# Altium schematic symbol library SKALE_LIB.SCHLIB: 65 symbols (part 2 of 2)
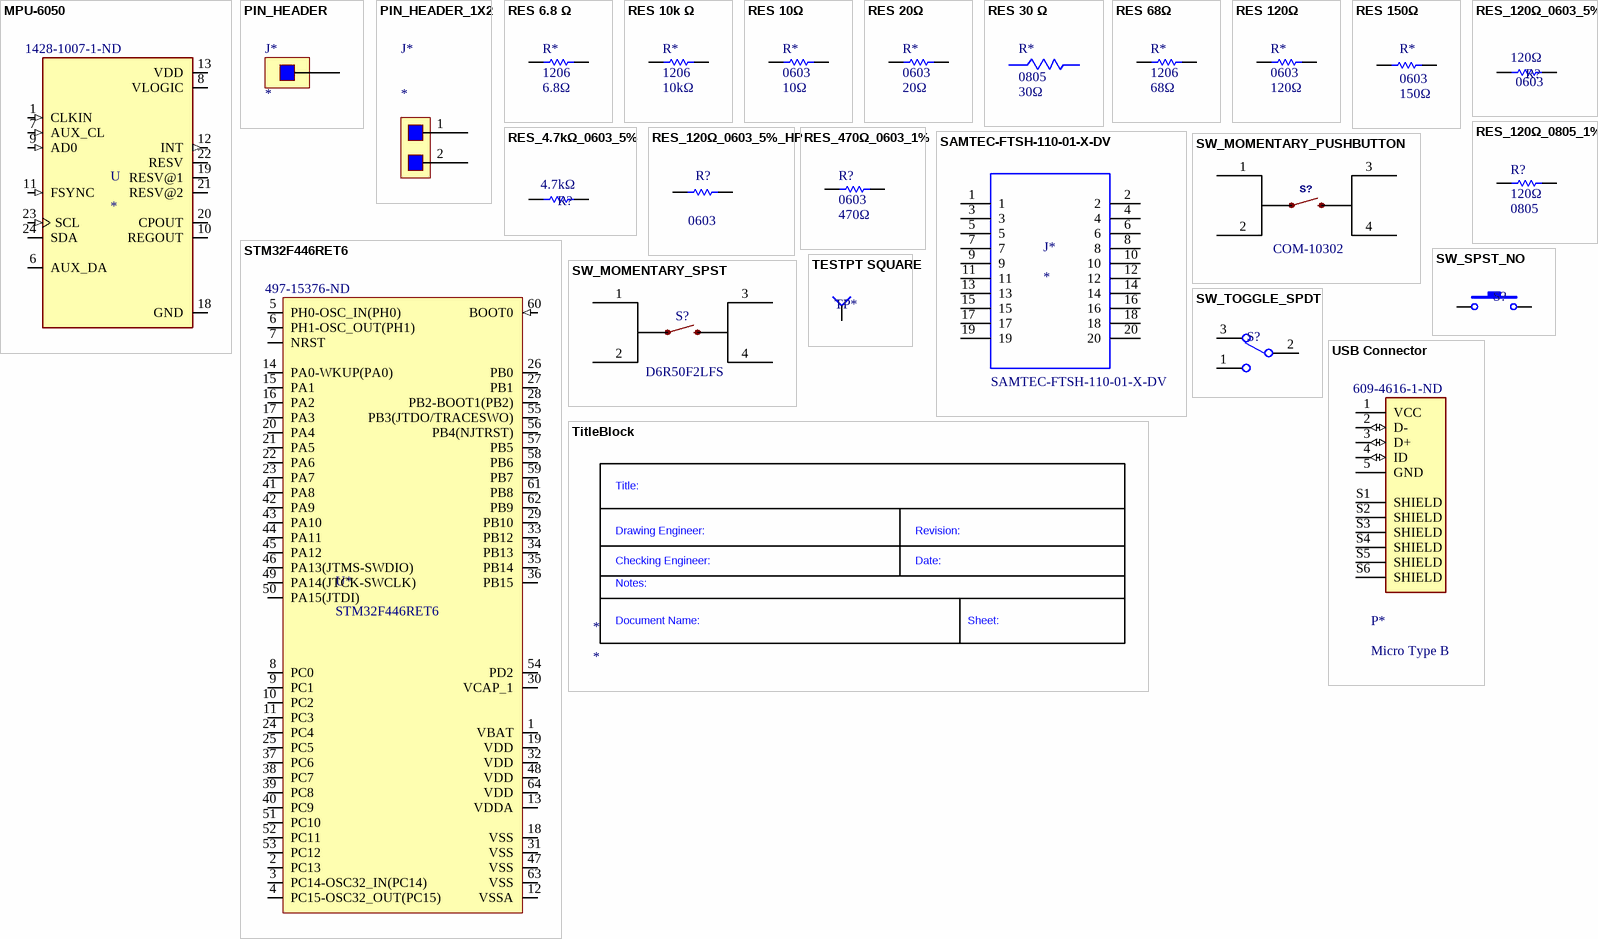
[diagram p2: symbols MPU-6050 to USB Connector]

## RES 6.8 Ω
designator R*, comment 1206  Resistance: 6.8Ω
Fixed Resistor, Metal Glaze/thick Film, 0.25W, 6.8ohm, 200V, 5% +/-Tol, 200ppm/Cel, Surface Mount, 1206; Manufacturer: Stackpole Electronics; Manufacturer Part Number: RMCF1206JT6R80; Rated Power Dissipation (P): 250mW; Rated Temperature: 70°C; Temperature Coefficient: 200ppm/°C; Package Height: 0.55mm; Package Length: 3.2mm; Package Width: 1.6mm; Reference Standard: AEC-Q200; Supplier 1: Digi-Key; RoHS: Yes; Category: Chip SMD Resistors; Stock 1: 965; Pricing 1: 1=0.10000, 10=0.02900, 100=0.01180, 1000=0.00530, 2500=0.00460 (USD); Mount: Surface Mount; Number of Pins: 2; Package Shape: Rectangular; Size Code: 1206; Terminal Finish: Nickel; Min Operating Temperature: -55°C; Max Operating Temperature: 155°C; Tolerance: 5%; JESD-609 Code: e3; Resistor Type: FIXED RESISTOR; Construction: Rectangular; Package Style: SMTMeter; Packaging: Tape and Reel; Technology: METAL GLAZE/THICK FILM; Termination: Wraparound; Working Voltage: 200V; ComponentLink1URL: https://datasheet.ciiva.com:443/pdfs/VipMasterIC/IC/SEIE/SEIE-S-A0009541969/SEIE-S-A0009541969-1.pdf?src-supplier=IHS+Markit; ComponentLink1Description: https://datasheet.ciiva.com:443/pdfs/VipMasterIC/IC/SEIE/SEIE-S-A0009541969/SEIE-S-A0009541969-1.pdf?src-supplier=IHS+Markit; ComponentLink2URL: http://components.arrow.com/part/dataview/44988312S9337764N1174?src-supplier=Arrow+Electronics; ComponentLink2Description: http://components.arrow.com/part/dataview/44988312S9337764N1174?src-supplier=Arrow+Electronics; ComponentLink3URL: https://www.verical.com/server-webapp/html/getDatasheet?partID=365394&src-supplier=Verical; ComponentLink3Description: https://www.verical.com/server-webapp/html/getDatasheet?partID=365394&src-supplier=Verical; ComponentLink4URL: https://www.seielect.com/catalog/SEI-RMCF_RMCP.pdf?src-supplier=Avnet; ComponentLink4Description: https://www.seielect.com/catalog/SEI-RMCF_RMCP.pdf?src-supplier=Avnet; ComponentLink5URL: http://www.seielect.com/Catalog/SEI-RMCF_RMCP.pdf?src-supplier=Digi-Key; ComponentLink5Description: http://www.seielect.com/Catalog/SEI-RMCF_RMCP.pdf?src-supplier=Digi-Key; ComponentLink6URL: https://www.seielect.com/Catalog/SEI-RMCF_RMCP.pdf?src-supplier=Digi-Key; ComponentLink6Description: https://www.seielect.com/Catalog/SEI-RMCF_RMCP.pdf?src-supplier=Digi-Key; ComponentLink7URL: https://www.seielect.com/catalog/SEI-Packaging.pdf?src-supplier=Digi-Key; ComponentLink7Description: https://www.seielect.com/catalog/SEI-Packaging.pdf?src-supplier=Digi-Key; Supplier Part Number 1: RMCF1206JT6R80CT-ND
footprint RES 6.8 OHM
pins: 1, 2

## RES 10k Ω
designator R*, comment 1206  Resistance: 10kΩ
Fixed Resistor, Metal Glaze/thick Film, 0.25W, 10000ohm, 200V, 1% +/-Tol, 50ppm/Cel, Surface Mount, 1206; Manufacturer: Yageo; Manufacturer Part Number: RE1206FRE0710KL; Supplier 1: Digi-Key; RoHS: Yes; Category: Chip SMD Resistors; Stock 1: 6708; Pricing 1: 1=0.10000, 10=0.05900, 100=0.02390, 1000=0.01073, 2500=0.00932 (USD); ComponentLink1URL: https://datasheet.ciiva.com:443/pdfs/VipMasterIC/IC/YAGO/YAGO-S-A0003975721/YAGO-S-A0003975721-1.pdf?src-supplier=IHS+Markit; ComponentLink1Description: https://datasheet.ciiva.com:443/pdfs/VipMasterIC/IC/YAGO/YAGO-S-A0003975721/YAGO-S-A0003975721-1.pdf?src-supplier=IHS+Markit; ComponentLink2URL: http://www.yageo.com/NewPortal/yageodocoutput?fileName=/pdf/R-Chip/PYu-RE_105_RoHS_L_4.pdf&src-supplier=Digi-Key; ComponentLink2Description: http://www.yageo.com/NewPortal/yageodocoutput?fileName=/pdf/R-Chip/PYu-RE_105_RoHS_L_4.pdf&src-supplier=Digi-Key; Supplier Part Number 1: 13-RE1206FRE0710KLCT-ND
footprint 13-RE1206FRE0710KLCT-ND
pins: 1, 2

## RES 10Ω
designator R*, comment 0603  Resistance: 10Ω
Fixed Resistor, Metal Glaze/thick Film, 0.1W, 10ohm, 75V, 1% +/-Tol, 50ppm/Cel, Surface Mount, 0603; Manufacturer: Yageo; Manufacturer Part Number: RE0603FRE0710RL; Rated Power Dissipation (P): 100mW; Rated Temperature: 70°C; Temperature Coefficient: 50ppm/°C; Package Height: 0.45mm; Package Length: 1.6mm; Package Width: 0.8mm; Supplier 1: Digi-Key; RoHS: Yes; Category: Chip SMD Resistors; Stock 1: 8567; Pricing 1: 1=0.10000, 10=0.05500, 100=0.02240, 1000=0.01007, 2500=0.00874 (USD); Mount: Surface Mount; Number of Pins: 2; Size Code: 0603; Terminal Finish: Nickel; Min Operating Temperature: -55°C; Max Operating Temperature: 155°C; Tolerance: 1%; JESD-609 Code: e3; Resistor Type: FIXED RESISTOR; Construction: Rectangular; Package Style: SMTMeter; Packaging: Tape and Reel; Technology: METAL GLAZE/THICK FILM; Termination: Wraparound; Working Voltage: 75V; ComponentLink1URL: https://datasheet.ciiva.com:443/pdfs/VipMasterIC/IC/YAGO/YAGO-S-A0003975721/YAGO-S-A0003975721-1.pdf?src-supplier=IHS+Markit; ComponentLink1Description: https://datasheet.ciiva.com:443/pdfs/VipMasterIC/IC/YAGO/YAGO-S-A0003975721/YAGO-S-A0003975721-1.pdf?src-supplier=IHS+Markit; ComponentLink2URL: http://www.yageo.com/NewPortal/yageodocoutput?fileName=/pdf/R-Chip/PYu-RE_105_RoHS_L_4.pdf&src-supplier=Digi-Key; ComponentLink2Description: http://www.yageo.com/NewPortal/yageodocoutput?fileName=/pdf/R-Chip/PYu-RE_105_RoHS_L_4.pdf&src-supplier=Digi-Key; Supplier Part Number 1: 13-RE0603FRE0710RLCT-ND
footprint RE0603FRE0710RL
pins: 1, 2

## RES 20Ω
designator R*, comment 0603  Resistance: 20Ω
Fixed Resistor, 0.1W, 20ohm, 50V, 5% +/-Tol, 200ppm/Cel, Surface Mount, 0603; Manufacturer: Rohm; Manufacturer Part Number: SDR03EZPJ200; Additional Feature: ANTI-SULFUR; Rated Power Dissipation (P): 100mW; Rated Temperature: 70°C; Temperature Coefficient: 200ppm/°C; Reference Standard: TS 16949; Supplier 1: Digi-Key; RoHS: No; Category: Chip SMD Resistors; Stock 1: 3900; Pricing 1: 1=0.10000, 10=0.07300, 100=0.02800, 1000=0.01232, 2500=0.01064 (USD); Mount: Surface Mount; Number of Pins: 2; Package Shape: Rectangular; Size Code: 0603; Min Operating Temperature: -55°C; Max Operating Temperature: 155°C; Tolerance: 5%; Resistor Type: FIXED RESISTOR; Packaging: Tape and Reel; Termination: Wraparound; Working Voltage: 50V; ComponentLink1URL: https://datasheet.ciiva.com:443/pdfs/VipMasterIC/IC/ROHM/ROHM-S-A0002832543/ROHM-S-A0002832543-1.pdf?src-supplier=IHS+Markit; ComponentLink1Description: https://datasheet.ciiva.com:443/pdfs/VipMasterIC/IC/ROHM/ROHM-S-A0002832543/ROHM-S-A0002832543-1.pdf?src-supplier=IHS+Markit; ComponentLink2URL: https://www.rohm.com/datasheet/SDR03EZPJ/sdr-e?src-supplier=Digi-Key; ComponentLink2Description: https://www.rohm.com/datasheet/SDR03EZPJ/sdr-e?src-supplier=Digi-Key; Supplier Part Number 1: 511-1747-1-ND
footprint SDR03EZPJ200
pins: 1, 2

## RES 30 Ω
designator R*, comment 0805  Resistance: 30Ω
Fixed Resistor, Metal Glaze/thick Film, 0.125W, 30ohm, 150V, 1% +/-Tol, 100ppm/Cel, Surface Mount, 0805; Manufacturer: Vishay Dale; Manufacturer Part Number: CRCW080530R0FKEAC; Rated Power Dissipation (P): 125mW; Temperature Coefficient: -100100ppm/°C; Package Width: 1.25mm; Package Height: 0.5mm; Package Length: 2mm; Supplier 1: Digi-Key; RoHS: No; Stock 1: 71663; Pricing 1: 1=0.10000, 10=0.05400, 100=0.02210, 1000=0.00994, 2500=0.00862 (USD); Number of Pins: 2; Size Code: 0805; Terminal Finish: Nickel; Min Operating Temperature: -55°C; Max Operating Temperature: 155°C; Tolerance: 1%; Packaging: Tape and Reel; Technology: METAL GLAZE/THICK FILM; Working Voltage: 150V; JESD-609 Code: e3; Resistor Type: FIXED RESISTOR; Construction: Chip; Package Style: SMTMeter; ComponentLink1URL: https://datasheet.ciiva.com:443/pdfs/VipMasterIC/IC/VISH/VISH-S-A0003599164/VISH-S-A0003599164-1.pdf?src-supplier=IHS+Markit; ComponentLink1Description: https://datasheet.ciiva.com:443/pdfs/VipMasterIC/IC/VISH/VISH-S-A0003599164/VISH-S-A0003599164-1.pdf?src-supplier=IHS+Markit; Supplier Part Number 1: 541-4153-1-ND
footprint RES 30 OHM
pins: 1 22, 2 21

## RES 68Ω
designator R*, comment 1206  Resistance: 68Ω
VISCRCW120668R0JNEAC Res Thick Film 1206; Manufacturer: Vishay; Tolerance: 5%; Rated Power Dissipation (P): 250mW; Temperature Coefficient: -200200ppm/°C; Working Voltage: 200V; Package Height: 0.55mm; Package Length: 3.05mm; Package Width: 1.55mm; Supplier 1: Digi-Key; Manufacturer Part Number: CRCW120668R0JNEAC; Stock 1: 24990; Pricing 1: 1=0.10000, 10=0.06300, 100=0.02570, 1000=0.01153, 2500=0.01000 (USD); Number of Pins: 2; Size Code: 1206; Terminal Finish: Nickel; Min Operating Temperature: -55°C; Max Operating Temperature: 155°C; JESD-609 Code: e3; Resistor Type: FIXED RESISTOR; Construction: Chip; Package Style: SMTMeter; Packaging: Tape and Reel; Technology: METAL GLAZE/THICK FILM; ComponentLink1URL: https://datasheet.ciiva.com:443/pdfs/VipMasterIC/IC/VISH/VISH-S-A0003599164/VISH-S-A0003599164-1.pdf?src-supplier=IHS+Markit; ComponentLink1Description: https://datasheet.ciiva.com:443/pdfs/VipMasterIC/IC/VISH/VISH-S-A0003599164/VISH-S-A0003599164-1.pdf?src-supplier=IHS+Markit; Supplier Part Number 1: 541-CRCW120668R0JNEACCT-ND
footprint CRCW120668R0JNEAC
pins: 1, 2

## RES 120Ω
designator R*, comment 0603  Resistance: 120Ω
Fixed Resistor, 0.1W, 120ohm, 50V, 5% +/-Tol, 200ppm/Cel, Surface Mount, 0603; Manufacturer: Rohm; Manufacturer Part Number: SDR03EZPJ121; Supplier 1: Digi-Key; RoHS: No; Category: Chip SMD Resistors; Stock 1: 4798; Pricing 1: 1=0.10000, 10=0.07300, 100=0.02800, 1000=0.01232, 2500=0.01064 (USD); ComponentLink1URL: https://datasheet.ciiva.com:443/pdfs/VipMasterIC/IC/ROHM/ROHM-S-A0002832543/ROHM-S-A0002832543-1.pdf?src-supplier=IHS+Markit; ComponentLink1Description: https://datasheet.ciiva.com:443/pdfs/VipMasterIC/IC/ROHM/ROHM-S-A0002832543/ROHM-S-A0002832543-1.pdf?src-supplier=IHS+Markit; ComponentLink2URL: https://www.rohm.com/datasheet/SDR03EZPJ/sdr-e?src-supplier=Digi-Key; ComponentLink2Description: https://www.rohm.com/datasheet/SDR03EZPJ/sdr-e?src-supplier=Digi-Key; Supplier Part Number 1: 511-1735-1-ND
footprint SDR03EZPJ200
pins: 1, 2

## RES 150Ω
designator R*, comment 0603  Resistance: 150Ω
Fixed Resistor, Metal Glaze/thick Film, 0.1W, 150ohm, 75V, 5% +/-Tol, 200ppm/Cel, Surface Mount, 0603; Manufacturer: Vishay; Manufacturer Part Number: CRCW0603150RJNEAC; Rated Power Dissipation (P): 100mW; Temperature Coefficient: -200200ppm/°C; Package Height: 0.45mm; Package Length: 1.6mm; Package Width: 0.8mm; Supplier 1: Digi-Key; RoHS: Yes; Category: Chip SMD Resistors; Stock 1: 59770; Number of Pins: 2; Size Code: 0603; Terminal Finish: Nickel; Min Operating Temperature: -55°C; Max Operating Temperature: 155°C; Tolerance: 5%; JESD-609 Code: e3; Resistor Type: FIXED RESISTOR; Construction: Chip; Package Style: SMTMeter; Packaging: Tape and Reel; Technology: METAL GLAZE/THICK FILM; Working Voltage: 75V; ComponentLink1URL: https://datasheet.ciiva.com:443/pdfs/VipMasterIC/IC/VISH/VISH-S-A0003599164/VISH-S-A0003599164-1.pdf?src-supplier=IHS+Markit; ComponentLink1Description: https://datasheet.ciiva.com:443/pdfs/VipMasterIC/IC/VISH/VISH-S-A0003599164/VISH-S-A0003599164-1.pdf?src-supplier=IHS+Markit; ComponentLink2URL: http://www.vishay.com/docs/28773/crcwce3.pdf?src-supplier=Digi-Key; ComponentLink2Description: http://www.vishay.com/docs/28773/crcwce3.pdf?src-supplier=Digi-Key; Supplier Part Number 1: 541-CRCW0603150RJNEACCT-ND
footprint 0603
pins: 1, 2

## RES_4.7kΩ_0603_5%
designator R?, comment value 4.7kΩ  (hidden comment: RES_4.7kΩ_0603)
RES 4.7K OHM 5% 1/10W 0603; Manufacturer 1: Yageo; Manufacturer Part Number 1: RC0603JR-074K7L; Supplier Part Number 1: 311-4.7KGRCT-ND; Supplier 1: Digi-Key
footprint RES0603 (Chip Resistor, Body 1.6x0.8mm, IPC Medium Density)
pins: 1, 2

## RES_120Ω_0603_5%
designator R?, comment value 120Ω  Package/Footprint: 0603  (hidden comment: RES_120Ω_0603)
RES 120 OHM 5% 1/10W 0603; Manufacturer 1: Yageo; Manufacturer Part Number 1: RC0603JR-07120RL; Supplier Part Number 1: 311-120GRCT-ND; Supplier 1: Digi-Key; Mounting Type: SMD
footprint RES0603 (Chip Resistor, Body 1.6x0.8mm, IPC Medium Density)
pins: 1, 2

## RES_120Ω_0603_5%_HP
designator R?  Package/Footprint: 0603
RES 120 OHM 5% 1/4W 0603; Manufacturer 1: Rohm; Manufacturer Part Number 1: ESR03EZPJ121; Supplier 1: Digi-Key; Mounting Type: SMD; Supplier Part Number 1: RHM120DCT-ND
footprint RES0603 (Chip Resistor, Body 1.6x0.8mm, IPC Medium Density)
pins: 1, 2

## RES_120Ω_0805_1%
designator R?  value 120Ω  Package/Footprint: 0805
RES 120 OHM 1% 1/8W 0805; Manufacturer 1: Vishay; Manufacturer Part Number 1: CRCW0805120RFKEA; Supplier 1: Digi-Key; Mounting Type: SMD; Supplier Part Number 1: 541-120CCT-ND; LCSC Part #: C17437
footprint RES0805 (Chip Resistor, 2-Leads, Body 2.00x1.25mm, IPC High Density)
pins: 1, 2

## RES_470Ω_0603_1%
designator R?, comment value 470Ω  Footprint Size: 0603  (hidden comment: 470R 1%)
RES 470 OHM 1% 1/10W 0603; Manufacturer 1: Yageo; Manufacturer Part Number 1: RC0603FR-07470RL; Supplier Part Number 1: 311-470HRCT-ND; Supplier 1: Digi-Key
footprint RES0603 (Chip Resistor, Body 1.6x0.8mm, IPC Medium Density)
pins: 1, 2

## SAMTEC-FTSH-110-01-X-DV
designator J*
Connector Header Surface Mount 20 position 0.050 _1.27mm_; MF: Samtec; MP: FTSH-110-01-L-DV-K; Value: *; Digi-Key_Part_Number: SAM13960TR-ND; Package: None; Digi-Key_Purchase_URL: https://www.digikey.com/product-detail/en/samtec-inc/FTSH-110-01-L-DV-K-TR/SAM13960TR-ND/6693931?utm_source=snapeda&utm_medium=aggregator&utm_campaign=symbol; SnapEDA_Link: https://www.snapeda.com/parts/FTSH-110-01-L-DV-K/Samtec%20Inc./view-part/567652/?ref=snap
footprint SAMTEC-FTSH-110-01-X-DV
pins: 1, 2, 3, 4, 5, 6, 7, 8, 9, 10, 11, 12, 13, 14, 15, 16, 17, 18, 19, 20

## STM32F446RET6
designator U*  Supplier Part Number 1: 497-15376-ND
RISC Microcontroller, 32-Bit, FLASH, CORTEX-M4F CPU, 180MHz, CMOS, PQFP64; Manufacturer: STMicroelectronics; Package Body Material: Plastic; Package Equivalence Code: QFP64,.47SQ,20; Power Supplies: 1.8/3.3V; Speed: 180RPM; Max Supply Current: 115mA; Qualification Status: Not Qualified; Parameter 1: *; Supplier 1: Digi-Key; Manufacturer Part Number: STM32F446RET6; RoHS: Yes; Category: Microcontrollers; Pricing 1: 1=9.05000, 10=8.17300, 25=7.79320, 160=6.76675, 320=6.46266, 480=5.89242, 960=5.13210, 2400=4.94202, 4960=4.75194 (USD); Package Code: QFP; Number of Pins: 64; Package Shape: Square; Min Operating Temperature: -40°C; Max Operating Temperature: 85°C; JESD-30 Code: S-PQFP-G64; Package Style: FLATPACKMeter; Surface Mount: Yes; Technology: CMOS; Terminal Form: Gull Wing; Terminal Position: QUAD; Terminal Pitch: 0.5mm; Temperature Grade: INDUSTRIAL; ComponentLink1URL: https://datasheet.ciiva.com:443/pdfs/VipMasterIC/IC/SGST/SGST-S-A0000954157/SGST-S-A0000954273-1.pdf?src-supplier=IHS+Markit; ComponentLink1Description: https://datasheet.ciiva.com:443/pdfs/VipMasterIC/IC/SGST/SGST-S-A0000954157/SGST-S-A0000954273-1.pdf?src-supplier=IHS+Markit; ComponentLink2URL: http://www.farnell.com/datasheets/2309063.pdf?src-supplier=Farnell; ComponentLink2Description: http://www.farnell.com/datasheets/2309063.pdf?src-supplier=Farnell; ComponentLink3URL: http://www.mouser.com/ds/2/389/stm32f446mc-956216.pdf?src-supplier=Mouser; ComponentLink3Description: http://www.mouser.com/ds/2/389/stm32f446mc-956216.pdf?src-supplier=Mouser; ComponentLink4URL: http://www.farnell.com/datasheets/2309063.pdf?src-supplier=Newark; ComponentLink4Description: http://www.farnell.com/datasheets/2309063.pdf?src-supplier=Newark; ComponentLink5URL: http://www.st.com/content/ccc/resource/technical/document/datasheet/65/cb/75/50/53/d6/48/24/DM00141306.pdf/files/DM00141306.pdf/jcr:content/translations/en.DM00141306.pdf?src-supplier=Digi-Key; ComponentLink5Description: http://www.st.com/content/ccc/resource/technical/document/datasheet/65/cb/75/50/53/d6/48/24/DM00141306.pdf/files/DM00141306.pdf/jcr:content/translations/en.DM00141306.pdf?src-supplier=Digi-Key; ComponentLink6URL: http://www.farnell.com/datasheets/2309063.pdf?src-supplier=Element14; ComponentLink6Description: http://www.farnell.com/datasheets/2309063.pdf?src-supplier=Element14
footprint STM_LQFP64_N (Thin QFP, 64-Leads, Body 10x10mm, Pitch 0.5mm, IPC Medium Density)
pins: 1 VBAT (power), 2 PC13 (io) "PC13/EVENTOUT/TAMP_1/WKUP1", 3 PC14-OSC32_IN(PC14) (io) "PC14/EVENTOUT/OSC32_IN", 4 PC15-OSC32_OUT(PC15) (io) "PC15/EVENTOUT/OSC32_OUT", 5 PH0-OSC_IN(PH0) (io) "PH0/EVENTOUT/OSC_IN", 6 PH1-OSC_OUT(PH1) (io) "PH1/EVENTOUT/OSC_OUT", 7 NRST (io), 8 PC0 (io) "PC0/SAI1_MCLK_B,OTG_HS_ULPI_STP,FMC_SDNWE,EVENTOUT/ADC123_IN10", 9 PC1 (io) "PC1/SPI3_MOSI/I2S3_SD,SAI1_SD_A,SPI2_MOSI/I2S2_SD,EVENTOUT/ADC123_IN11", 10 PC2 (io) "PC2/SPI2_MISO,OTG_HS_ULPI_DIR,FMC_SDNE0,EVENTOUT/ADC123_IN12", 11 PC3 (io) "PC3/SPI2_MOSI/I2S2_SD,OTG_HS_ULPI_NXT,FMC_SDCKE0,EVENTOUT/ADC123_IN13", 12 VSSA (power), 13 VDDA (power), 14 PA0-WKUP(PA0) (io) "PA0-WKUP(PA0)/TIM2_CH1/TIM2_ETR,TIM5_CH1,TIM8_ETR,USART2_CTS,UART4_TX,EVENTOUT/ADC123_IN0,WKUP0/TAMP_2", 15 PA1 (io) "PA1/TIM2_CH2,TIM5_CH2,USART2_RTS,UART4_RX,QUADSPI_BK1_IO3,SAI2_MCLK_B,EVENTOUT/ADC123_IN1", 16 PA2 (io) "PA2/TIM2_CH3,TIM5_CH3,TIM9_CH1,USART2_TX,SAI2_SCK_B,EVENTOUT/ADC123_IN2", 17 PA3 (io) "PA3/TIM2_CH4,TIM5_CH4,TIM9_CH2,SAI1_FS_A,USART2_RX,OTG_HS_ULPI_D0,EVENTOUT/ADC123_IN3", 18 VSS (power), 19 VDD (power), 20 PA4 (io) "PA4/SPI1_NSS/I2S1_WS,SPI3_NSS/I2S3_WS,USART2_CK,OTG_HS_SOF,DCMI_HSYNC,EVENTOUT/ADC12_IN4,DAC_OUT1", 21 PA5 (io) "PA5/TIM2_CH1/TIM2_ETR,TIM8_CH1N,SPI1_SCK/I2S1_CK,OTG_HS_ULPI_CK,EVENTOUT/ADC12_IN5,DAC_OUT2", 22 PA6 (io) "PA6/TIM1_BKIN,TIM3_CH1,TIM8_BKIN,SPI1_MISO,I2S2_MCK,TIM13_CH1,DCMI_PIXCLK,EVENTOUT/ADC12_IN6", 23 PA7 (io) "PA7/TIM1_CH1N,TIM3_CH2,TIM8_CH1N,SPI1_MOSI/I2S1_SD,TIM14_CH1,FMC_SDNWE,EVENTOUT/ADC12_IN7", 24 PC4 (io) "PC4/I2S1_MCK,SPDIFRX_IN2,FMC_SDNE0,EVENTOUT/ADC12_IN14", 25 PC5 (io) "PC5/USART3_RX,SPDIFRX_IN3,FMC_SDCKE0,EVENTOUT/ADC12_IN15", 26 PB0 (io) "PB0/TIM1_CH2N,TIM3_CH3,TIM8_CH2N,SPI3_MOSI/I2S3_SD,UART4_CTS,OTG_HS_ULPI_D1,SDIO_D1,EVENTOUT/ADC12_IN8", 27 PB1 (io) "PB1/TIM1_CH3N,TIM3_CH4,TIM8_CH3N,OTG_HS_ULPI_D2,SDIO_D2,EVENTOUT/ADC12_IN9", 28 PB2-BOOT1(PB2) (io) "PB2-BOOT1(PB2)/TIM2_CH4,SAI1_SD_A,SPI3_MOSI/I2S3_SD,QUADSPI_CLK,OTG_HS_ULPI_D4,SDIO_CK,EVENTOUT", 29 PB10 (io) "PB10/TIM2_CH3,I2C2_SCL,SPI2_SCK/I2S2_CK,SAI1_SCK_A,USART3_TX,OTG_HS_ULPI_D3,EVENTOUT", 30 VCAP_1, 31 VSS (power), 32 VDD (power), 33 PB12 (io) "PB12/TIM1_BKIN,I2C2_SMBA,SPI2_NSS/I2S2_WS,SAI1_SCK_B,USART3_CK,CAN2_RX,OTG_HS_ULPI_D5,OTG_HS_ID,EVENTOUT", 34 PB13 (io) "PB13/TIM1_CH1N,SPI2_SCK/I2S2_CK,USART3_CTS,CAN2_TX,OTG_HS_ULPI_D6,EVENTOUT/OTG_HS_VBUS", 35 PB14 (io) "PB14/TIM1_CH2N,TIM8_CH2N,SPI2_MISO,USART3_RTS,TIM12_CH1,OTG_HS_DM,EVENTOUT", 36 PB15 (io) "PB15/RTC_REFIN,TIM1_CH3N,TIM8_CH3N,SPI2_MOSI/I2S2_SD,TIM12_CH2,OTG_HS_DP,EVENTOUT", 37 PC6 (io) "PC6/TIM3_CH1,TIM8_CH1,FMPI2C1_SCL,I2S2_MCK,USART6_TX,SDIO_D6,DCMI_D0,EVENTOUT", 38 PC7 (io) "PC7/TIM3_CH2,TIM8_CH2,FMPI2C1_SDA,SPI2_SCK/I2S2_CK,I2S3_MCK,SPDIFRX_IN1,USART6_RX,SDIO_D7,DCMI_D1,EVENTOUT", 39 PC8 (io) "PC8/TRACED0,TIM3_CH3,TIM8_CH3,UART5_RTS,USART6_CK,SDIO_D0,DCMI_D2,EVENTOUT", 40 PC9 (io) "PC9/MCO2,TIM3_CH4,TIM8_CH4,I2C3_SDA,I2S_CKIN,UART5_CTS,QUADSPI_BK1_IO0,SDIO_D1,DCMI_D3,EVENTOUT", 41 PA8 (io) "PA8/MCO1,TIM1_CH1,I2C3_SCL,USART1_CK,OTG_FS_SOF,EVENTOUT", 42 PA9 (io) "PA9/TIM1_CH2,I2C3_SMBA,SPI2_SCK/I2S2_CK,SAI1_SD_B,USART1_TX,DCMI_D0,EVENTOUT/OTG_FS_VBUS", 43 PA10 (io) "PA10/TIM1_CH3,USART1_RX,OTG_FS_ID,DCMI_D1,EVENTOUT", 44 PA11 (io) "PA11/TIM1_CH4,USART1_CTS,CAN1_RX,OTG_FS_DM,EVENTOUT", 45 PA12 (io) "PA12/TIM1_ETR,USART1_RTS,SAI2_FS_B,CAN1_TX,OTG_FS_DP,EVENTOUT", 46 PA13(JTMS-SWDIO) (io) "PA13/JTMS-SWDIO,EVENTOUT", 47 VSS (power), 48 VDD (power), 49 PA14(JTCK-SWCLK) (io) "PA14/JTCK-SWCLK,EVENTOUT", 50 PA15(JTDI) (io) "PA15/JTDI,TIM2_CH1/TIM2_ETR,HDMI_CEC,SPI1_NSS/I2S1_WS,SPI3_NSS/I2S3_WS,UART4_RTS,EVENTOUT", 51 PC10 (io) "PC10/SPI3_SCK/I2S3_CK,USART3_TX,UART4_TX,QUADSPI_BK1_IO1,SDIO_D2,DCMI_D8,EVENTOUT", 52 PC11 (io) "PC11/SPI3_MISO,USART3_RX,UART4_RX,QUADSPI_BK2_NCS,SDIO_D3,DCMI_D4,EVENTOUT", 53 PC12 (io) "PC12/I2C2_SDA,SPI3_MOSI/I2S3_SD,USART3_CK,UART5_TX,SDIO_CK,DCMI_D9,EVENTOUT", 54 PD2 (io) "PD2/TIM3_ETR,UART5_RX,SDIO_CMD,DCMI_D11,EVENTOUT", 55 PB3(JTDO/TRACESWO) (io) "PB3/JTDO/TRACESWO,TIM2_CH2,I2C2_SDA,SPI1_SCK/I2S1_CK,SPI3_SCK/I2S3_CK,EVENTOUT", 56 PB4(NJTRST) (io) "PB4/NJTRST,TIM3_CH1,I2C3_SDA,SPI1_MISO,SPI3_MISO,SPI2_NSS/I2S2_WS,EVENTOUT", 57 PB5 (io) "PB5/TIM3_CH2,I2C1_SMBA,SPI1_MOSI/I2S1_SD,SPI3_MOSI/I2S3_SD,CAN2_RX,OTG_HS_ULPI_D7,FMC_SDCKE1,DCMI_D10,EVENTOUT", 58 PB6 (io) "PB6/TIM4_CH1,HDMI_CEC,I2C1_SCL,USART1_TX,CAN2_TX,QUADSPI_BK1_NCS,FMC_SDNE1,DCMI_D5,EVENTOUT", 59 PB7 (io) "PB7/TIM4_CH2,I2C1_SDA,USART1_RX,SPDIFRX_IN0,FMC_NL,DCMI_VSYNC,EVENTOUT", 60 BOOT0 (in) "BOOT0/VPP", 61 PB8 (io) "PB8/TIM2_CH1/TIM2_ETR,TIM4_CH3,TIM10_CH1,I2C1_SCL,CAN1_RX,SDIO_D4,DCMI_D6,EVENTOUT", 62 PB9 (io) "PB9/TIM2_CH2,TIM4_CH4,TIM11_CH1,I2C1_SDA,SPI2_NSS/I2S2_WS,SAI1_FS_B,CAN1_TX,SDIO_D5,DCMI_D7,EVENTOUT", 63 VSS (power), 64 VDD (power)

## SW_MOMENTARY_PUSHBUTTON
designator S?  Manufacturer Part Number 1: COM-10302
TACTILE MOMENTARY PUSHBUTTON SPST; Manufacturer 1: SparkFun; Package/Footprint: TH; Supplier 1: Digi-Key; Mounting Type: TH; Supplier Part Number 1: 1568-1332-ND; Verified: No
footprint TACTILE_SWITCH_PTH_12MM
pins: 1, 2, 3, 4

## SW_MOMENTARY_SPST
designator S?  Manufacturer Part Number 1: D6R50F2LFS
SWITCH PUSH SPST-NO 0.1A 32V; Manufacturer 1: ITT C&K; Current Rating: 100mA; Throw Configuration: SPST; Operating Force: 2.5N; Actuator Type: Round, Button; Switch Function: Off-Mom; Electrical Life: 250000Cycles; Actuator Length: 7mm; Row Spacing: 5mm; Supplier 1: Digi-Key; Contact Plating: Silver; Number of Terminals: 4; Max Voltage Rating (DC): 32V; Voltage Rating (DC): 32V; Max Current Rating: 100mA; Orientation: Straight; Terminal Pitch: 5mm; Supplier Part Number 1: 401-1993-ND
footprint D6R
pins: 1, 2, 3, 4

## SW_SPST_NO
designator S?
SWITCH TACTILE SPST-NO 0.05A 12V; Manufacturer Part Number 1: B3U-1000P; Manufacturer 1: Omron Electronics Inc-EMC Div; Package/Footprint: SMD; Supplier 1: Digi-Key; Supplier Part Number 1: SW1020CT-ND; Mounting Type: SMD
footprint B3U-1000P (TACTILE SWITCH GREY)
pins: 1, 2

## SW_TOGGLE_SPDT
designator S?
SWITCH TOGGLE SPDT 5A 120V; Manufacturer 1: E-Switch; Manufacturer Part Number 1: 100SP1T1B4M2QE; Voltage Rating (DC): 28V; Package/Footprint: TH; Supplier 1: Digi-Key; Mounting Type: TH; Throw Configuration: SPDT; Supplier Part Number 1: EG2355-ND
footprint 100SP1T1B4M2QE
pins: 1, 2, 3

## TESTPT SQUARE
designator TP*, comment TESTPT  (value not drawn)
footprint TESTPT SQUARE
pins: 1 =value

## TitleBlock
designator *  (graphical)
Standard Title Block
text: Title:; Drawing Engineer:; Revision:; Checking Engineer:; Date:; Notes:; Document Name:; Sheet:

## USB Connector
designator P*, comment Micro Type B  Supplier Part Number 1: 609-4616-1-ND
USB Connector, 5 Contact(s), Female, Right Angle, Solder Terminal, Locking, Receptacle; Manufacturer: Amphenol FCI; Manufacturer Part Number: 10118193-0001LF; Manufacturer Series: 10118193; Contact Resistance: 30mR; Durability: 10000Cycles; Empty Shell: No; Insertion Force-Max: 35.1392N; Insulation Resistance: 1GR; Mating Information: MULTIPLE MATING PARTS AVAILABLE; Number Of Connectors: 1; PCB Contact Pattern: RECTANGULAR; Polarization Key: POLAR PIN POSITION; Rated Current (Signal): 1.8A; Number of Contacts: 5; Connector Type: TELECOM AND DATACOM CONNECTOR; Option: General Purpose; Board Mounting Option: LOCATING POSTS; Plating Thickness: 30uin; Body Breadth: 0.122inch; Body Depth: 0.199inch; Body Length: 0.309inch; Reference Standard: UL; Reliability: COMMERCIAL; Supplier 1: Digi-Key; RoHS: Yes; Category: USB Connectors; Stock 1: 43659; Pricing 1: 1=0.45000, 10=0.43000, 25=0.36840, 50=0.31320, 100=0.30090, 250=0.27016, 500=0.25788 (USD); Mount: Board; Insulation Material: Polymer; Shell Finish: Tin; Shell Material: Stainless Steel; Contact Material: Copper Alloy; Contact Finish - Mating: GOLD (30) OVER NICKEL; Contact Finish - Termination: GOLD FLASH OVER NICKEL; Contact Gender: Female; Contact Style: USB; Filter Feature: No; Mixed Contacts: No; Mounting Style: RIGHT ANGLE; Number Of PCB Rows: 1; Termination: Solder; JESD-609 Code: e4; Body/Shell Style: RECEPTACLE; Mounting Option 1: LOCKING; Terminal Pitch: 0.6604mm; Flammability Rating: UL94 V-0; DIN Conformance: No; IEC Conformance: No; MIL Conformance: No; ComponentLink1URL: https://datasheet.ciiva.com:443/pdfs/VipMasterIC/IC/FRCI/FRCI-S-A0000088532/FRCI-S-A0001133856-1.pdf?src-supplier=IHS+Markit; ComponentLink1Description: https://datasheet.ciiva.com:443/pdfs/VipMasterIC/IC/FRCI/FRCI-S-A0000088532/FRCI-S-A0001133856-1.pdf?src-supplier=IHS+Markit; ComponentLink2URL: https://datasheet.ciiva.com/851/10118193-851106.pdf?src-supplier=Digi-Key; ComponentLink2Description: https://datasheet.ciiva.com/851/10118193-851106.pdf?src-supplier=Digi-Key; ComponentLink3URL: https://datasheet.ciiva.com/26853/getdatasheetpartid-418618-26853893.pdf?src-supplier=Verical; ComponentLink3Description: https://datasheet.ciiva.com/26853/getdatasheetpartid-418618-26853893.pdf?src-supplier=Verical; ComponentLink4URL: https://datasheet.ciiva.com/4598/10118193ac-197151-4598799.pdf?src-supplier=Mouser; ComponentLink4Description: https://datasheet.ciiva.com/4598/10118193ac-197151-4598799.pdf?src-supplier=Mouser; ComponentLink5URL: https://datasheet.ciiva.com/14802/10118193-0001lf-webpage-14802386.pdf?src-supplier=Arrow+Electronics; ComponentLink5Description: https://datasheet.ciiva.com/14802/10118193-0001lf-webpage-14802386.pdf?src-supplier=Arrow+Electronics; ComponentLink6URL: https://datasheet.ciiva.com/851/10118193-851107.pdf?src-supplier=Digi-Key; ComponentLink6Description: https://datasheet.ciiva.com/851/10118193-851107.pdf?src-supplier=Digi-Key; ComponentLink7URL: https://datasheet.ciiva.com/851/10118193-851108.pdf?src-supplier=Digi-Key; ComponentLink7Description: https://datasheet.ciiva.com/851/10118193-851108.pdf?src-supplier=Digi-Key; ComponentLink8URL: https://datasheet.ciiva.com/14618/70236827-14618887.pdf?src-supplier=Allied+Electronics; ComponentLink8Description: https://datasheet.ciiva.com/14618/70236827-14618887.pdf?src-supplier=Allied+Electronics
footprint FCI_10118193-0001LF
pins: 1 VCC (power), 2 D- (io), 3 D+ (io), 4 ID (io), 5 GND (power), S1 SHIELD, S2 SHIELD, S3 SHIELD, S4 SHIELD, S5 SHIELD, S6 SHIELD